# EAGLE library part MAX4311 (library Traficon)
High-Speed, Low-Power, Single-Supply Multichannel, Video Multiplexer-Amplifiers
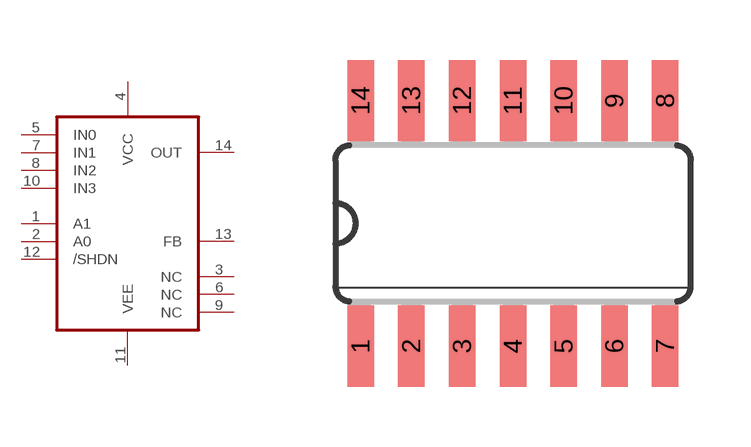
[diagram p108: symbol with the pads of SO14; footprint SO14]

Designator prefix -

## MAX4311ESD  [SO14]
1  A1
2  A0
3  NC
4  VCC
5  IN0
6  NC
7  IN1
8  IN2
9  NC
10  IN3
11  VEE
12  /SHDN
13  FB
14  OUT

## Footprint SO14 (pad centres in mm)
Small Outline package 150 mil
smd 0.66 x 2.032: 1 -3.81,-3.073; 2 -2.54,-3.073; 3 -1.27,-3.073; 4 0,-3.073; 5 1.27,-3.073; 6 2.54,-3.073; 7 3.81,-3.073; 8 3.81,3.073; 9 2.54,3.073; 10 1.27,3.073; 11 0,3.073; 12 -1.27,3.073; 13 -2.54,3.073; 14 -3.81,3.073